# Altium footprint library switches.PcbLib: 3 footprints
Each footprint in its own frame and in the unit in brackets; x right, y up, seen from the top. Pads: shape width x height; smd on the part's side, far side on the other; paste and mask are expansions set on the pad; w line width, h text height; cw(c..) or ccw(c..) is an arc to the next point about the centre after c.
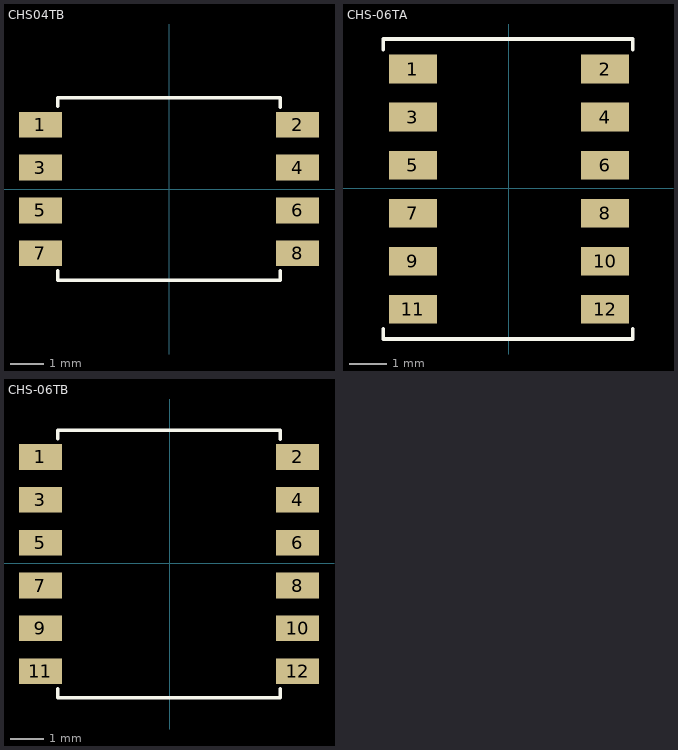
[diagram p0: the footprints below, top view; thin cyan lines are the x and y axes]

## CHS04TB [mm] "4 POS DIP SWITCH"
pads (8):
  rect 1.27x0.76 smd: 1(-3.81,1.905) 2(3.81,1.905) 3(-3.81,0.635) 4(3.81,0.635) 5(-3.81,-0.635) 6(3.81,-0.635) 7(-3.81,-1.905) 8(3.81,-1.905)
Top Overlay:
  lines w0.1: -3.3,-2.425 -3.3,-2.7 3.3,-2.7 3.3,-2.425 ; -3.3,2.45 -3.3,2.7 3.3,2.7 3.3,2.425
3D body: height 2.5, standoff 2.2, extent -1.5,-1.4 1.5,-1.1
3D body: height 2.5, standoff 2.2, extent -1.5,-0.1 1.5,0.2
3D body: height 2.5, standoff 2.2, extent -1.5,1.15 1.5,1.45
3D body: height 2.5, standoff 2.2, extent -1.5,-2.7 1.5,-2.4
3D body: height 2.5, standoff 2.2, extent -1.5,2.4 1.5,2.7
3D body: height 2.5, standoff 2.2, extent 1.5,-2.7 3.3,2.7
3D body: height 2.5, standoff 2.2, extent -3.3,-2.7 -1.5,2.7
3D body: height 2.3, standoff 2.2, extent -1.2,-2.3 0,-1.5
3D body: height 2.3, standoff 2.2, extent 0,-1 1.2,-0.2
3D body: height 2.3, standoff 2.2, extent -1.2,0.3 0,1.1
3D body: height 2.5, standoff 2.2, extent 0,-2.3 1.2,-1.5
3D body: height 2.5, standoff 2.2, extent -1.2,-1 0,-0.2
3D body: height 2.5, standoff 2.2, extent 0,0.3 1.2,1.1
3D body: height 2.3, standoff 2.2, extent 0,1.5 1.2,2.3
3D body: height 2.5, standoff 2.2, extent -1.2,1.5 0,2.3
3D body: height 2.2, standoff 0, extent -3.3,-2.7 3.3,2.7

## CHS-06TA [mil] "6 POS DIP SWITCH"
pads (12):
  rect 50x29.92 smd: 1(-100,124) 2(100,124) 3(-100,74) 4(100,74) 5(-100,24) 6(100,24) 7(-100,-26) 8(100,-26) 9(-100,-76) 10(100,-76) 11(-100,-126) 12(100,-126)
Top Overlay:
  lines w3.94: -130.92,-146.47 -130.92,-157 128.92,-157 128.92,-146.47 ; -130.92,144.47 -130.92,155.3 128.92,155.3 128.92,144.47
3D body: height 98.43, standoff 86.61, extent -60.05,-6.11 58.06,5.7
3D body: height 98.43, standoff 86.61, extent -60.05,45.07 58.06,56.88
3D body: height 98.43, standoff 86.61, extent -60.05,94.28 58.06,106.09
3D body: height 98.43, standoff 86.61, extent -60.06,-57.3 58.06,-45.49
3D body: height 98.43, standoff 86.61, extent -60.06,143.49 58.06,155.3
3D body: height 98.43, standoff 86.61, extent 58.06,-157 128.92,155.3
3D body: height 98.43, standoff 86.61, extent -130.92,-157 -60.05,155.3
3D body: height 90.55, standoff 86.61, extent -48.24,-41.55 -1,-10.05
3D body: height 90.55, standoff 86.61, extent -0.99,9.63 46.25,41.13
3D body: height 90.55, standoff 86.61, extent -48.24,60.81 -1,92.31
3D body: height 98.43, standoff 86.61, extent -0.99,-41.55 46.25,-10.05
3D body: height 98.43, standoff 86.61, extent -48.24,9.63 -1,41.13
3D body: height 98.43, standoff 86.61, extent -0.99,60.81 46.25,92.31
3D body: height 90.55, standoff 86.61, extent -1,108.06 46.24,139.56
3D body: height 98.43, standoff 86.61, extent -48.24,108.06 -1,139.56
3D body: height 86.61, standoff 0, extent -130.92,-157 128.92,155.3
3D body: height 98.43, standoff 86.61, extent -48.24,-90.37 -1,-58.87
3D body: height 98.43, standoff 86.61, extent -0.99,-141.55 46.25,-110.05
3D body: height 90.55, standoff 86.61, extent -0.99,-90.37 46.25,-58.87
3D body: height 90.55, standoff 86.61, extent -48.24,-141.55 -1,-110.05
3D body: height 98.43, standoff 86.61, extent -60.06,-157 58.06,-145.49
3D body: height 98.43, standoff 86.61, extent -60.05,-106.11 58.06,-94.3

## CHS-06TB [mil] "6 POS DIP SWITCH"
pads (12):
  rect 50x29.92 smd: 1(-151,124) 2(149,124) 3(-151,74) 4(149,74) 5(-151,24) 6(149,24) 7(-151,-26) 8(149,-26) 9(-151,-76) 10(149,-76) 11(-151,-126) 12(149,-126)
Top Overlay:
  lines w3.94: -130.92,-146.47 -130.92,-157 128.92,-157 128.92,-146.47 ; -130.92,145.46 -130.92,155.3 128.92,155.3 128.92,144.47
3D body: height 98.43, standoff 86.61, extent -60.05,-6.11 58.06,5.7
3D body: height 98.43, standoff 86.61, extent -60.05,45.07 58.06,56.88
3D body: height 98.43, standoff 86.61, extent -60.05,94.28 58.06,106.09
3D body: height 98.43, standoff 86.61, extent -60.06,-57.3 58.06,-45.49
3D body: height 98.43, standoff 86.61, extent -60.06,143.49 58.06,155.3
3D body: height 98.43, standoff 86.61, extent 58.06,-157 128.92,155.3
3D body: height 98.43, standoff 86.61, extent -130.92,-157 -60.05,155.3
3D body: height 90.55, standoff 86.61, extent -48.24,-41.55 -1,-10.05
3D body: height 90.55, standoff 86.61, extent -0.99,9.63 46.25,41.13
3D body: height 90.55, standoff 86.61, extent -48.24,60.81 -1,92.31
3D body: height 98.43, standoff 86.61, extent -0.99,-41.55 46.25,-10.05
3D body: height 98.43, standoff 86.61, extent -48.24,9.63 -1,41.13
3D body: height 98.43, standoff 86.61, extent -0.99,60.81 46.25,92.31
3D body: height 90.55, standoff 86.61, extent -1,108.06 46.24,139.56
3D body: height 98.43, standoff 86.61, extent -48.24,108.06 -1,139.56
3D body: height 86.61, standoff 0, extent -130.92,-157 128.92,155.3
3D body: height 98.43, standoff 86.61, extent -48.24,-90.37 -1,-58.87
3D body: height 98.43, standoff 86.61, extent -0.99,-141.55 46.25,-110.05
3D body: height 90.55, standoff 86.61, extent -0.99,-90.37 46.25,-58.87
3D body: height 90.55, standoff 86.61, extent -48.24,-141.55 -1,-110.05
3D body: height 98.43, standoff 86.61, extent -60.06,-157 58.06,-145.49
3D body: height 98.43, standoff 86.61, extent -60.05,-106.11 58.06,-94.3